# Altium footprint library SM_L_6045.PcbLib: 1 footprints
Each footprint in its own frame and in the unit in brackets; x right, y up, seen from the top. Pads: shape width x height; smd on the part's side, far side on the other; paste and mask are expansions set on the pad; w line width, h text height; cw(c..) or ccw(c..) is an arc to the next point about the centre after c.
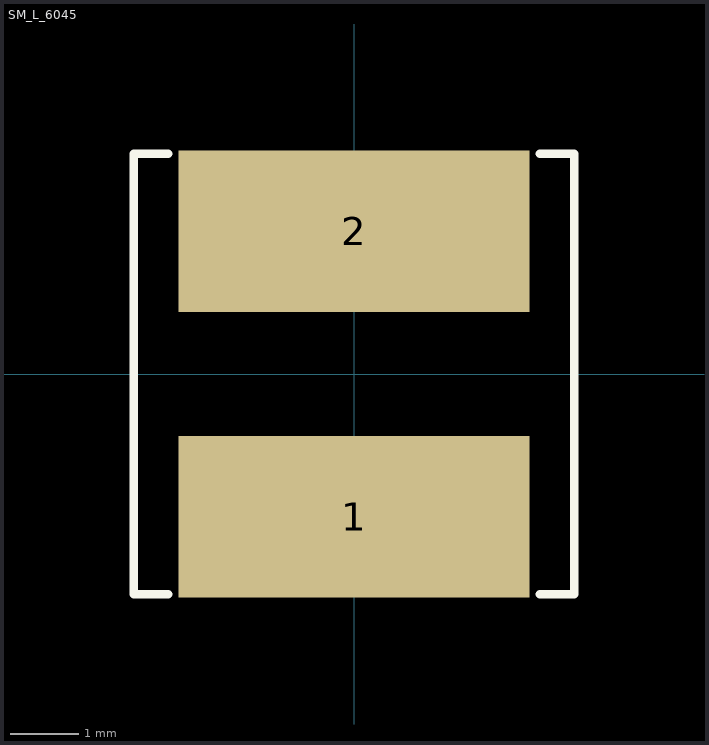
[diagram p0: the footprint, top view; thin cyan lines are the x and y axes]

## SM_L_6045 [mm]
height 4.5
pads (2):
  rect 5.1x2.35 smd mask+0.076: 1(0,-2.075) 2(0,2.075)
Top Overlay:
  lines w0.127: -2.7,-3.2 -3.2,-3.2 -3.2,3.2 -2.7,3.2 ; 2.7,-3.2 3.2,-3.2 3.2,3.2 2.7,3.2
3D body: height 4.5, standoff 0, extent -3,-3 3,3